# Altium footprint library Pushbutton.PcbLib: 1 footprints
Each footprint in its own frame and in the unit in brackets; x right, y up, seen from the top. Pads: shape width x height; smd on the part's side, far side on the other; paste and mask are expansions set on the pad; w line width, h text height; cw(c..) or ccw(c..) is an arc to the next point about the centre after c.
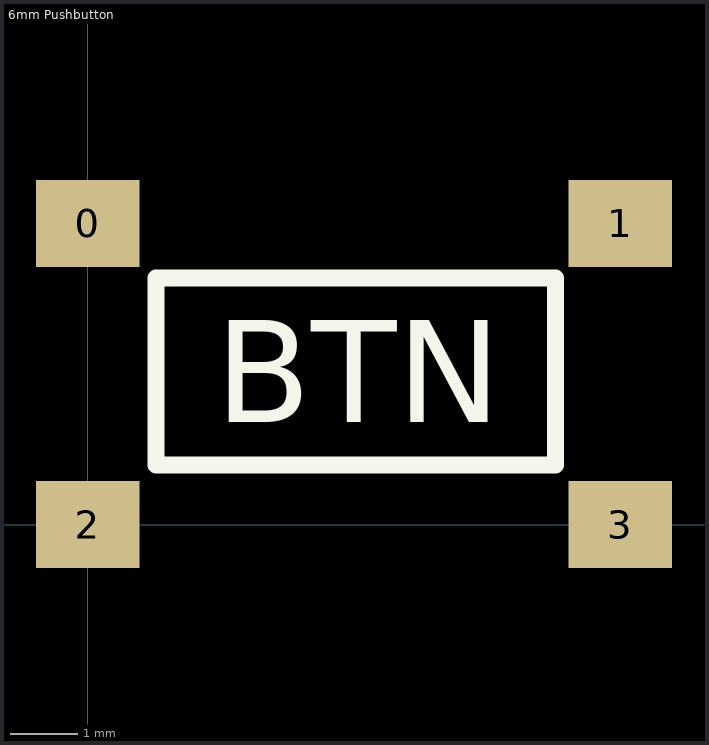
[diagram p0: the footprint, top view; thin cyan lines are the x and y axes]

## 6mm Pushbutton [mil] "Its a pushbutton."
pads (4):
  rect 61x51 smd: 0(0,177) 1(313,177) 2(0,0) 3(313,0)
Top Overlay:
  lines w10: 40,35 40,145 275,145 275,35 40,35
  text "BTN" at 75,60 h60